# Altium footprint library LED.PcbLib: 20 footprints (part 1 of 2)
Each footprint in its own frame and in the unit in brackets; x right, y up, seen from the top. Pads: shape width x height; smd on the part's side, far side on the other; paste and mask are expansions set on the pad; w line width, h text height; cw(c..) or ccw(c..) is an arc to the next point about the centre after c.
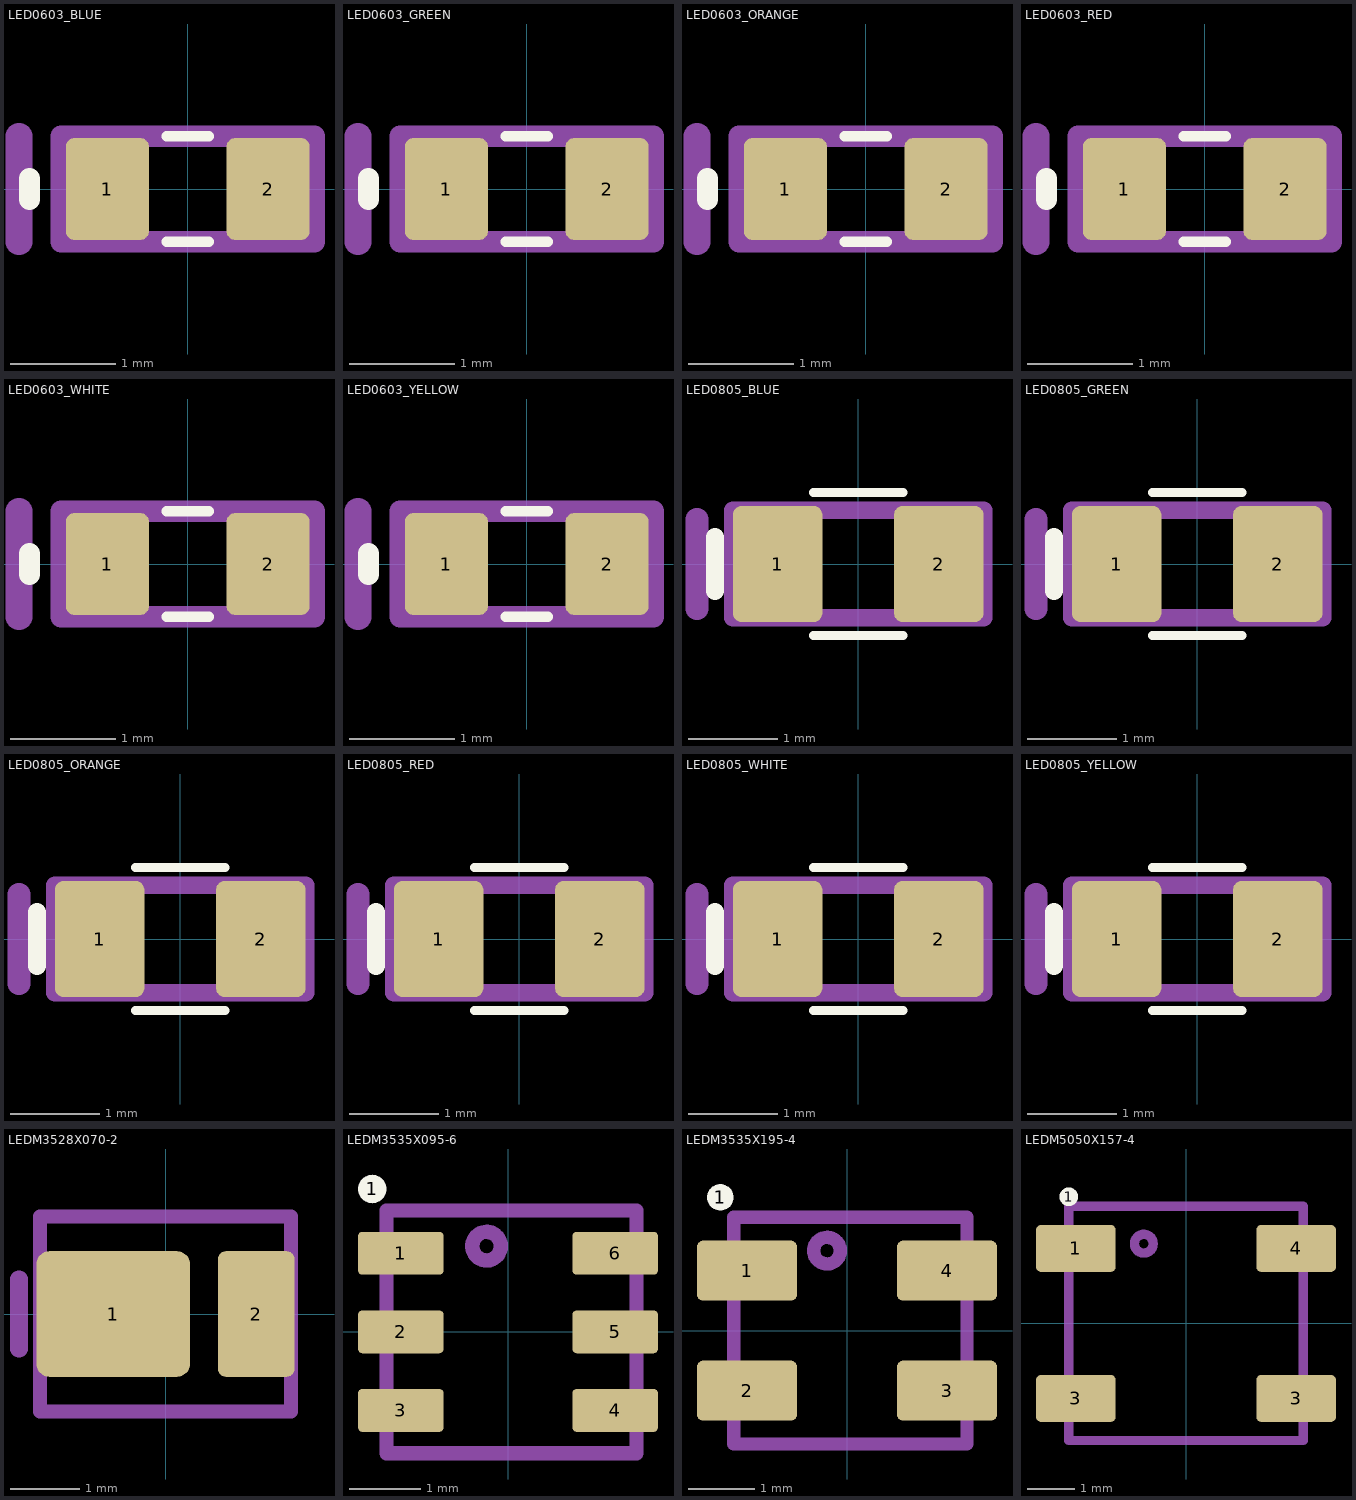
[diagram p0: the footprints below, top view; thin cyan lines are the x and y axes]

## LED0603_BLUE [mil]
pads (2):
  rrect20% 31x38 smd: 1(-30,0) 2(30,0)
Top Overlay:
  lines w3.94: -7.87,-19.68 7.87,-19.68 ; -7.87,19.68 7.87,19.68
  lines w7.87: -59.06,-3.94 -59.06,3.94
Top Assembly:
  lines w7.87: -47.24,-19.68 -47.24,19.68 47.24,19.68 47.24,-19.68 -47.24,-19.68
  lines w10: -62.99,-19.68 -62.99,19.68
3D body: height 31.5, standoff 11.61, extent -19.68,-15.75 19.68,15.75
3D body: height 11.81, standoff 0, extent -31.5,-15.55 -19.69,15.55
3D body: height 11.61, standoff 0.2, extent -31.3,-15.75 31.3,15.75
3D body: height 11.81, standoff 0, extent 19.69,-15.55 31.49,15.55
3D body: height 15.75, standoff 11.61, extent -1.97,-1.97 1.97,1.97
3D body: height 12.2, standoff 11.81, extent -27.55,9.85 -23.63,13.78

## LED0603_GREEN [mil]
pads (2):
  rrect20% 31x38 smd: 1(-30,0) 2(30,0)
Top Overlay:
  lines w3.94: -7.87,-19.68 7.87,-19.68 ; -7.87,19.68 7.87,19.68
  lines w7.87: -59.06,-3.94 -59.06,3.94
Top Assembly:
  lines w7.87: -47.24,-19.68 47.24,-19.68 47.24,19.68 -47.24,19.68 -47.24,-19.68
  lines w10: -62.99,-19.68 -62.99,19.68
3D body: height 12.2, standoff 11.81, extent -27.55,9.85 -23.63,13.78
3D body: height 31.5, standoff 11.61, extent -19.68,-15.75 19.68,15.75
3D body: height 11.81, standoff 0, extent -31.5,-15.55 -19.69,15.55
3D body: height 11.61, standoff 0.2, extent -31.3,-15.75 31.3,15.75
3D body: height 11.81, standoff 0, extent 19.69,-15.55 31.49,15.55
3D body: height 15.75, standoff 11.61, extent -1.97,-1.97 1.97,1.97

## LED0603_ORANGE [mil]
pads (2):
  rrect20% 31x38 smd: 1(-30,0) 2(30,0)
Top Overlay:
  lines w3.94: -7.87,-19.68 7.87,-19.68 ; -7.87,19.68 7.87,19.68
  lines w7.87: -59.06,-3.94 -59.06,3.94
Top Assembly:
  lines w7.87: -47.24,-19.68 -47.24,19.68 47.24,19.68 47.24,-19.68 -47.24,-19.68
  lines w10: -62.99,-19.68 -62.99,19.68
3D body: height 15.75, standoff 11.61, extent -1.97,-1.97 1.97,1.97
3D body: height 11.81, standoff 0, extent 19.69,-15.55 31.49,15.55
3D body: height 11.61, standoff 0.2, extent -31.3,-15.75 31.3,15.75
3D body: height 11.81, standoff 0, extent -31.5,-15.55 -19.69,15.55
3D body: height 31.5, standoff 11.61, extent -19.68,-15.75 19.68,15.75
3D body: height 12.2, standoff 11.81, extent -27.55,9.85 -23.63,13.78

## LED0603_RED [mil]
pads (2):
  rrect20% 31x38 smd: 1(-30,0) 2(30,0)
Top Overlay:
  lines w3.94: -7.87,-19.68 7.87,-19.68 ; -7.87,19.68 7.87,19.68
  lines w7.87: -59.06,-3.94 -59.06,3.94
Top Assembly:
  lines w7.87: -47.24,-19.68 47.24,-19.68 47.24,19.68 -47.24,19.68 -47.24,-19.68
  lines w10: -62.99,-19.68 -62.99,19.68
3D body: height 12.2, standoff 11.81, extent -27.55,9.85 -23.63,13.78
3D body: height 15.75, standoff 11.61, extent -1.97,-1.97 1.97,1.97
3D body: height 11.81, standoff 0, extent 19.69,-15.55 31.49,15.55
3D body: height 11.61, standoff 0.2, extent -31.3,-15.75 31.3,15.75
3D body: height 11.81, standoff 0, extent -31.5,-15.55 -19.69,15.55
3D body: height 31.5, standoff 11.61, extent -19.68,-15.75 19.68,15.75

## LED0603_WHITE [mil]
pads (2):
  rrect20% 31x38 smd: 1(-30,0) 2(30,0)
Top Overlay:
  lines w3.94: -7.87,-19.68 7.87,-19.68 ; -7.87,19.68 7.87,19.68
  lines w7.87: -59.06,-3.94 -59.06,3.94
Top Assembly:
  lines w7.87: -47.24,-19.68 47.24,-19.68 47.24,19.68 -47.24,19.68 -47.24,-19.68
  lines w10: -62.99,-19.68 -62.99,19.68
3D body: height 31.5, standoff 11.61, extent -19.68,-15.75 19.68,15.75
3D body: height 11.81, standoff 0, extent -31.5,-15.55 -19.69,15.55
3D body: height 11.61, standoff 0.2, extent -31.3,-15.75 31.3,15.75
3D body: height 11.81, standoff 0, extent 19.69,-15.55 31.49,15.55
3D body: height 15.75, standoff 11.61, extent -1.97,-1.97 1.97,1.97
3D body: height 12.2, standoff 11.81, extent -27.55,9.85 -23.63,13.78

## LED0603_YELLOW [mil]
pads (2):
  rrect20% 31x38 smd: 1(-30,0) 2(30,0)
Top Overlay:
  lines w3.94: -7.87,-19.68 7.87,-19.68 ; -7.87,19.68 7.87,19.68
  lines w7.87: -59.06,-3.94 -59.06,3.94
Top Assembly:
  lines w7.87: -47.24,-19.68 -47.24,19.68 47.24,19.68 47.24,-19.68 -47.24,-19.68
  lines w10: -62.99,-19.68 -62.99,19.68
3D body: height 12.2, standoff 11.81, extent -27.55,9.85 -23.63,13.78
3D body: height 31.5, standoff 11.61, extent -19.68,-15.75 19.68,15.75
3D body: height 11.81, standoff 0, extent -31.5,-15.55 -19.69,15.55
3D body: height 11.61, standoff 0.2, extent -31.3,-15.75 31.3,15.75
3D body: height 11.81, standoff 0, extent 19.69,-15.55 31.49,15.55
3D body: height 15.75, standoff 11.61, extent -1.97,-1.97 1.97,1.97

## LED0805_BLUE [mm]
pads (2):
  rrect20% 1x1.3 smd: 1(-0.9,0) 2(0.9,0)
Top Overlay:
  lines w0.1: -0.5,-0.8 0.5,-0.8 ; -0.5,0.8 0.5,0.8
  lines w0.2: -1.6,-0.3 -1.6,0.3
Top Assembly:
  lines w0.2: -1.4,-0.6 1.4,-0.6 1.4,0.6 -1.4,0.6 -1.4,-0.6
  lines w0.254: -1.8,-0.5 -1.8,0.5
3D body: height 0.3, standoff 0, extent 0.6,-0.6 1,0.6
3D body: height 0.3, standoff 0, extent -1,-0.6 -0.6,0.6
3D body: height 0.3, standoff 0.01, extent -1,-0.6 1,0.6
3D body: height 0.31, standoff 0.3, extent -0.8,0.35 -0.7,0.45
3D body: height 0.4, standoff 0.3, extent -0.05,-0.05 0.05,0.05
3D body: height 0.8, standoff 0.3, extent -0.6,-0.6 0.6,0.6

## LED0805_GREEN [mm]
pads (2):
  rrect20% 1x1.3 smd: 1(-0.9,0) 2(0.9,0)
Top Overlay:
  lines w0.1: -0.5,-0.8 0.5,-0.8 ; -0.5,0.8 0.5,0.8
  lines w0.2: -1.6,-0.3 -1.6,0.3
Top Assembly:
  lines w0.2: -1.4,-0.6 1.4,-0.6 1.4,0.6 -1.4,0.6 -1.4,-0.6
  lines w0.254: -1.8,-0.5 -1.8,0.5
3D body: height 0.3, standoff 0, extent 0.6,-0.6 1,0.6
3D body: height 0.3, standoff 0, extent -1,-0.6 -0.6,0.6
3D body: height 0.3, standoff 0.01, extent -1,-0.6 1,0.6
3D body: height 0.31, standoff 0.3, extent -0.8,0.35 -0.7,0.45
3D body: height 0.4, standoff 0.3, extent -0.05,-0.05 0.05,0.05
3D body: height 0.8, standoff 0.3, extent -0.6,-0.6 0.6,0.6

## LED0805_ORANGE [mm]
pads (2):
  rrect20% 1x1.3 smd: 1(-0.9,0) 2(0.9,0)
Top Overlay:
  lines w0.1: -0.5,-0.8 0.5,-0.8 ; -0.5,0.8 0.5,0.8
  lines w0.2: -1.6,-0.3 -1.6,0.3
Top Assembly:
  lines w0.2: -1.4,-0.6 1.4,-0.6 1.4,0.6 -1.4,0.6 -1.4,-0.6
  lines w0.254: -1.8,-0.5 -1.8,0.5
3D body: height 0.3, standoff 0, extent 0.6,-0.6 1,0.6
3D body: height 0.3, standoff 0, extent -1,-0.6 -0.6,0.6
3D body: height 0.3, standoff 0.01, extent -1,-0.6 1,0.6
3D body: height 0.31, standoff 0.3, extent -0.8,0.35 -0.7,0.45
3D body: height 0.4, standoff 0.3, extent -0.05,-0.05 0.05,0.05
3D body: height 0.8, standoff 0.3, extent -0.6,-0.6 0.6,0.6

## LED0805_RED [mm]
pads (2):
  rrect20% 1x1.3 smd: 1(-0.9,0) 2(0.9,0)
Top Overlay:
  lines w0.1: -0.5,-0.8 0.5,-0.8 ; -0.5,0.8 0.5,0.8
  lines w0.2: -1.6,-0.3 -1.6,0.3
Top Assembly:
  lines w0.2: -1.4,-0.6 1.4,-0.6 1.4,0.6 -1.4,0.6 -1.4,-0.6
  lines w0.254: -1.8,-0.5 -1.8,0.5
3D body: height 0.3, standoff 0, extent 0.6,-0.6 1,0.6
3D body: height 0.3, standoff 0, extent -1,-0.6 -0.6,0.6
3D body: height 0.3, standoff 0.01, extent -1,-0.6 1,0.6
3D body: height 0.31, standoff 0.3, extent -0.8,0.35 -0.7,0.45
3D body: height 0.4, standoff 0.3, extent -0.05,-0.05 0.05,0.05
3D body: height 0.8, standoff 0.3, extent -0.6,-0.6 0.6,0.6

## LED0805_WHITE [mm]
pads (2):
  rrect20% 1x1.3 smd: 1(-0.9,0) 2(0.9,0)
Top Overlay:
  lines w0.1: -0.5,-0.8 0.5,-0.8 ; -0.5,0.8 0.5,0.8
  lines w0.2: -1.6,-0.3 -1.6,0.3
Top Assembly:
  lines w0.2: -1.4,-0.6 -1.4,0.6 1.4,0.6 1.4,-0.6 -1.4,-0.6
  lines w0.254: -1.8,-0.5 -1.8,0.5
3D body: height 0.8, standoff 0.3, extent -0.6,-0.6 0.6,0.6
3D body: height 0.4, standoff 0.3, extent -0.05,-0.05 0.05,0.05
3D body: height 0.31, standoff 0.3, extent -0.8,0.35 -0.7,0.45
3D body: height 0.3, standoff 0.01, extent -1,-0.6 1,0.6
3D body: height 0.3, standoff 0, extent -1,-0.6 -0.6,0.6
3D body: height 0.3, standoff 0, extent 0.6,-0.6 1,0.6

## LED0805_YELLOW [mm]
pads (2):
  rrect20% 1x1.3 smd: 1(-0.9,0) 2(0.9,0)
Top Overlay:
  lines w0.1: -0.5,-0.8 0.5,-0.8 ; -0.5,0.8 0.5,0.8
  lines w0.2: -1.6,-0.3 -1.6,0.3
Top Assembly:
  lines w0.2: -1.4,-0.6 1.4,-0.6 1.4,0.6 -1.4,0.6 -1.4,-0.6
  lines w0.254: -1.8,-0.5 -1.8,0.5
3D body: height 0.3, standoff 0, extent 0.6,-0.6 1,0.6
3D body: height 0.3, standoff 0, extent -1,-0.6 -0.6,0.6
3D body: height 0.3, standoff 0.01, extent -1,-0.6 1,0.6
3D body: height 0.31, standoff 0.3, extent -0.8,0.35 -0.7,0.45
3D body: height 0.4, standoff 0.3, extent -0.05,-0.05 0.05,0.05
3D body: height 0.8, standoff 0.3, extent -0.6,-0.6 0.6,0.6

## LEDM3528X070-2 [mm]
pads (2):
  rrect20% 2.2x1.8 smd: 1(-0.75,0)
  rrect20% 1.1x1.8 smd: 2(1.3,0)
Top Assembly:
  lines w0.2: -1.8,-1.4 1.8,-1.4 1.8,1.4 -1.8,1.4 -1.8,-1.4
  lines w0.254: -2.1,-0.5 -2.1,0.5
3D body "LEDM3528X070-2.stp": height 0.72, standoff 0.01, extent -1.775,-1.4 1.775,1.4

## LEDM3535X095-6 [mm] "WS2812B-MINI"
pads (7):
  round 0.4 on Top Overlay: 1(-1.9,2)
  rrect20% 1.2x0.6 smd: 1(-1.5,1.1) 2(-1.5,0) 3(-1.5,-1.1) 4(1.5,-1.1) 5(1.5,0) 6(1.5,1.1)
Top Assembly:
  circle w0.2: c-0.3,1.2 r0.2
  lines w0.2: -1.7,-1.7 -1.7,1.7 1.8,1.7 1.8,-1.7 -1.7,-1.7
3D body "LEDM3535X095-6.stp": height 0.95, standoff -0.01, extent -1.76,-1.75 1.76,1.75

## LEDM3535X195-4 [mm] "WS2812B-MINI"
pads (5):
  round 0.4 on Top Overlay: 1(-1.9,2)
  rrect20% 1.5x0.9 smd: 1(-1.5,0.9) 2(-1.5,-0.9) 3(1.5,-0.9) 4(1.5,0.9)
Top Assembly:
  circle w0.2: c-0.3,1.2 r0.2
  lines w0.2: -1.7,-1.7 1.8,-1.7 1.8,1.7 -1.7,1.7 -1.7,-1.7
3D body "LEDM3535X190-4.stp": height 1.9, standoff 0, extent -1.84,-1.75 1.84,1.75

## LEDM5050X157-4 [mm] "WS2813"
pads (5):
  round 0.4 on Top Overlay: 1(-2.5,2.7)
  rrect20% 1.7x1 smd: 1(-2.35,1.6) 3(-2.35,-1.6) 3(2.35,-1.6) 4(2.35,1.6)
Top Assembly:
  circle w0.2: c-0.9,1.7 r0.2
  lines w0.2: -2.5,-2.5 -2.5,2.5 2.5,2.5 2.5,-2.5 -2.5,-2.5
3D body "LEDM5050X165-4.stp": height 1.57, standoff 0, extent -2.7,-2.5 2.7,2.5